# Altium footprint library Package_CSP.PcbLib: 178 footprints (part 7 of 12)
Each footprint in its own frame and in the unit in brackets; x right, y up, seen from the top. Pads: shape width x height; smd on the part's side, far side on the other; paste and mask are expansions set on the pad; w line width, h text height; cw(c..) or ccw(c..) is an arc to the next point about the centre after c.
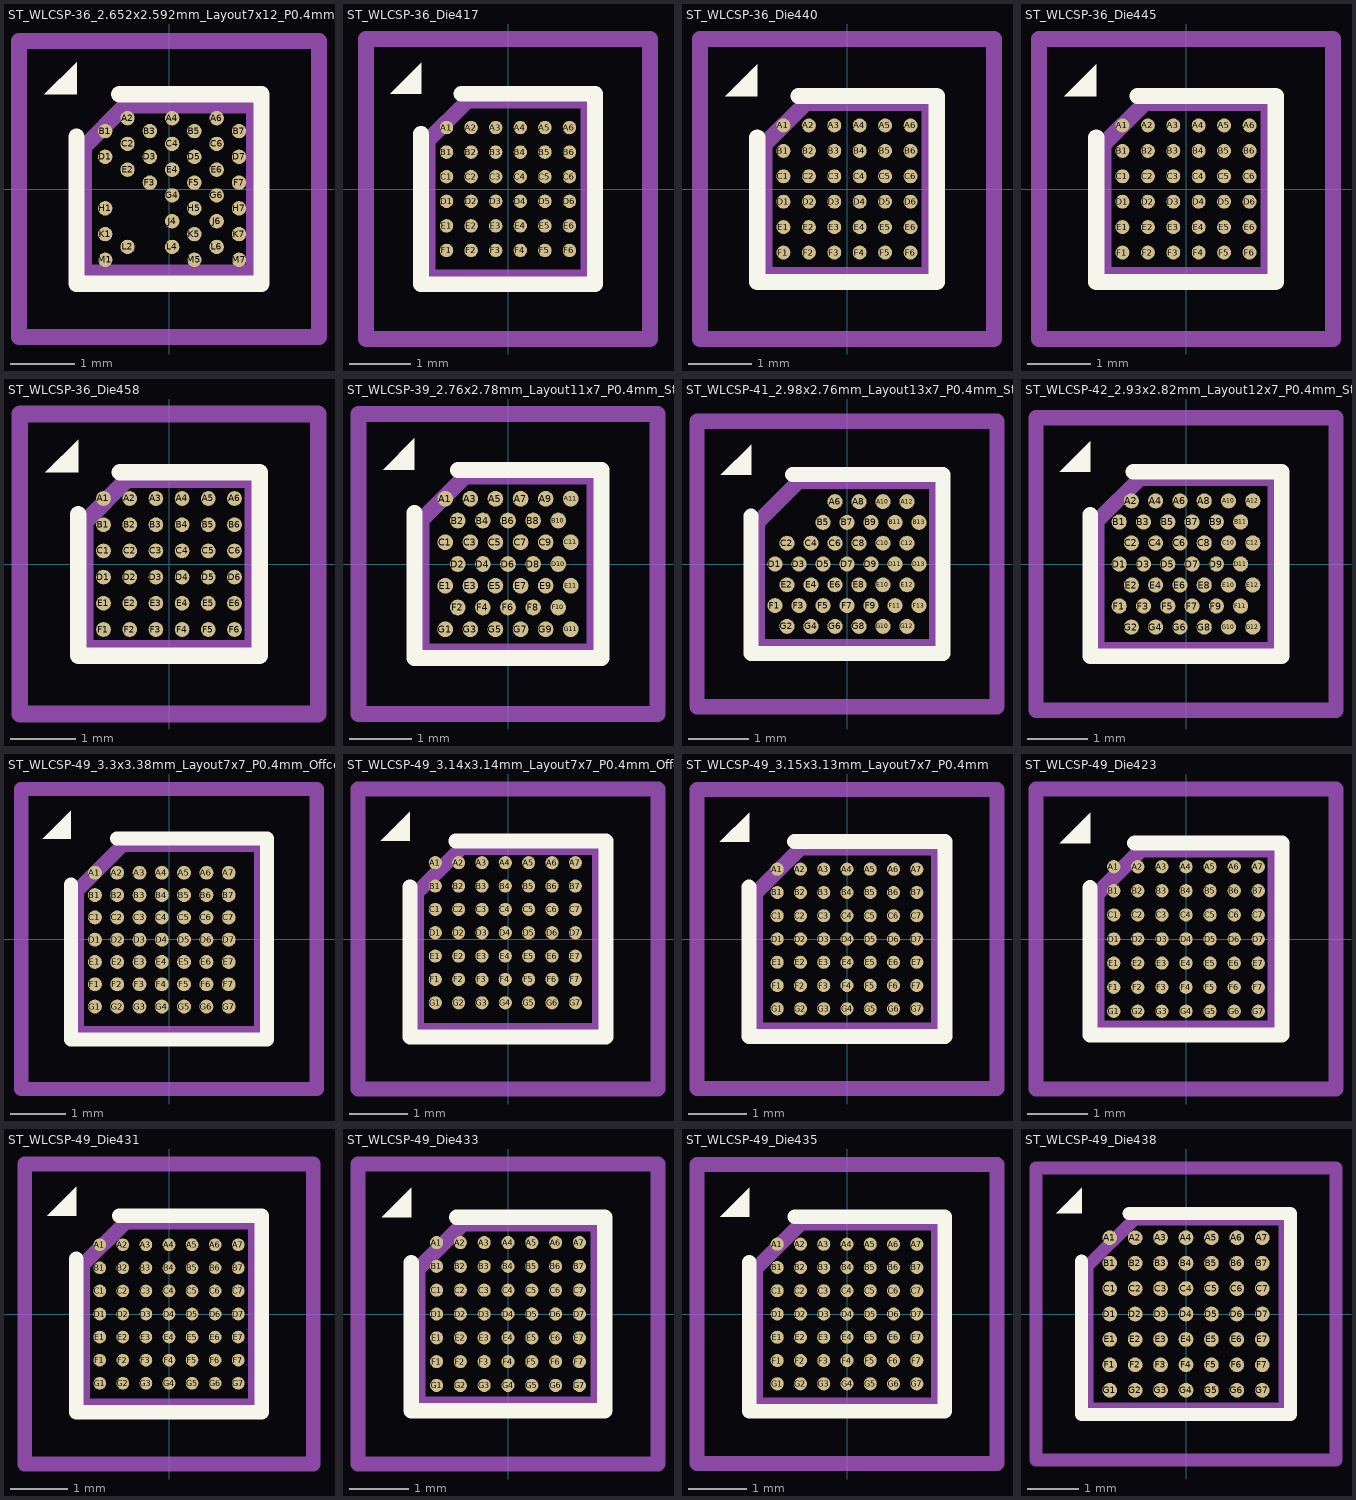
[diagram p6: the footprints below, top view; thin cyan lines are the x and y axes]

## ST_WLCSP-36_2.652x2.592mm_Layout7x12_P0.4mm_Stagger_Offcenter [mm]
pads (36):
  round 0.225 smd: A2(-0.645,1.1) A4(0.048,1.1) A6(0.741,1.1) B1(-0.991,0.9) B3(-0.298,0.9) B5(0.395,0.9) B7(1.088,0.9) C2(-0.645,0.7) C4(0.048,0.7) C6(0.741,0.7) D1(-0.991,0.5) D3(-0.298,0.5) D5(0.395,0.5) D7(1.088,0.5) E2(-0.645,0.3) E4(0.048,0.3) E6(0.741,0.3) F3(-0.298,0.1) F5(0.395,0.1) F7(1.088,0.1) G4(0.048,-0.1) G6(0.741,-0.1) H1(-0.991,-0.3) H5(0.395,-0.3) H7(1.088,-0.3) J4(0.048,-0.5) J6(0.741,-0.5) K1(-0.991,-0.7) K5(0.395,-0.7) K7(1.088,-0.7) L2(-0.645,-0.9) L4(0.048,-0.9) L6(0.741,-0.9) M1(-0.991,-1.1) M5(0.395,-1.1) M7(1.088,-1.1)
F.SilkS:
  region: -1.436,1.472 -1.936,1.472 -1.436,1.973
  lines w0.254: -1.436,0.81 -1.436,-1.472 1.436,-1.472 1.436,1.472 -0.773,1.472
Top Assembly:
  lines w0.254: -1.326,-1.296 1.326,-1.296 1.326,1.296 -0.678,1.296 -1.326,0.648 -1.326,-1.296
  text "'.Designator'" at -2.509,-0.521 h0.62
Top Courtyard:
  lines w0.254: -2.33,-2.3 2.33,-2.3 2.33,2.3 -2.33,2.3 -2.33,-2.3
Top Designator:
  text ".Designator" at -7.69,-0.508 h1.52

## ST_WLCSP-36_Die417 [mm]
pads (36):
  round 0.22 smd: A1(-1,1) A2(-0.6,1) A3(-0.2,1) A4(0.2,1) A5(0.6,1) A6(1,1) B1(-1,0.6) B2(-0.6,0.6) B3(-0.2,0.6) B4(0.2,0.6) B5(0.6,0.6) B6(1,0.6) C1(-1,0.2) C2(-0.6,0.2) C3(-0.2,0.2) C4(0.2,0.2) C5(0.6,0.2) C6(1,0.2) D1(-1,-0.2) D2(-0.6,-0.2) D3(-0.2,-0.2) D4(0.2,-0.2) D5(0.6,-0.2) D6(1,-0.2) E1(-1,-0.6) E2(-0.6,-0.6) E3(-0.2,-0.6) E4(0.2,-0.6) E5(0.6,-0.6) E6(1,-0.6) F1(-1,-1) F2(-0.6,-1) F3(-0.2,-1) F4(0.2,-1) F5(0.6,-1) F6(1,-1)
F.SilkS:
  region: -1.415,1.55 -1.915,1.55 -1.415,2.05
  lines w0.254: -1.415,0.897 -1.415,-1.55 1.415,-1.55 1.415,1.55 -0.763,1.55
Top Assembly:
  lines w0.254: -1.305,-1.44 1.305,-1.44 1.305,1.44 -0.653,1.44 -1.305,0.787 -1.305,-1.44
  text "'.Designator'" at -0.563,2.711 h0.67
Top Courtyard:
  lines w0.254: -2.31,-2.44 2.31,-2.44 2.31,2.44 -2.31,2.44 -2.31,-2.44
Top Designator:
  text ".Designator" at -7.618,-0.407 h1.52

## ST_WLCSP-36_Die440 [mm]
pads (36):
  round 0.22 smd: A1(-1,1) A2(-0.6,1) A3(-0.2,1) A4(0.2,1) A5(0.6,1) A6(1,1) B1(-1,0.6) B2(-0.6,0.6) B3(-0.2,0.6) B4(0.2,0.6) B5(0.6,0.6) B6(1,0.6) C1(-1,0.2) C2(-0.6,0.2) C3(-0.2,0.2) C4(0.2,0.2) C5(0.6,0.2) C6(1,0.2) D1(-1,-0.2) D2(-0.6,-0.2) D3(-0.2,-0.2) D4(0.2,-0.2) D5(0.6,-0.2) D6(1,-0.2) E1(-1,-0.6) E2(-0.6,-0.6) E3(-0.2,-0.6) E4(0.2,-0.6) E5(0.6,-0.6) E6(1,-0.6) F1(-1,-1) F2(-0.6,-1) F3(-0.2,-1) F4(0.2,-1) F5(0.6,-1) F6(1,-1)
F.SilkS:
  region: -1.412,1.462 -1.913,1.462 -1.412,1.961
  lines w0.254: -1.412,0.81 -1.412,-1.462 1.412,-1.462 1.412,1.462 -0.761,1.462
Top Assembly:
  lines w0.254: -1.302,-1.352 1.302,-1.352 1.302,1.352 -0.651,1.352 -1.302,0.7 -1.302,-1.352
  text "'.Designator'" at -0.529,2.549 h0.63
Top Courtyard:
  lines w0.254: -2.31,-2.36 2.31,-2.36 2.31,2.36 -2.31,2.36 -2.31,-2.36
Top Designator:
  text ".Designator" at -7.618,-0.429 h1.52

## ST_WLCSP-36_Die445 [mm]
pads (36):
  round 0.22 smd: A1(-1,1) A2(-0.6,1) A3(-0.2,1) A4(0.2,1) A5(0.6,1) A6(1,1) B1(-1,0.6) B2(-0.6,0.6) B3(-0.2,0.6) B4(0.2,0.6) B5(0.6,0.6) B6(1,0.6) C1(-1,0.2) C2(-0.6,0.2) C3(-0.2,0.2) C4(0.2,0.2) C5(0.6,0.2) C6(1,0.2) D1(-1,-0.2) D2(-0.6,-0.2) D3(-0.2,-0.2) D4(0.2,-0.2) D5(0.6,-0.2) D6(1,-0.2) E1(-1,-0.6) E2(-0.6,-0.6) E3(-0.2,-0.6) E4(0.2,-0.6) E5(0.6,-0.6) E6(1,-0.6) F1(-1,-1) F2(-0.6,-1) F3(-0.2,-1) F4(0.2,-1) F5(0.6,-1) F6(1,-1)
F.SilkS:
  region: -1.412,1.462 -1.913,1.462 -1.412,1.961
  lines w0.254: -1.412,0.81 -1.412,-1.462 1.412,-1.462 1.412,1.462 -0.761,1.462
Top Assembly:
  lines w0.254: -1.302,-1.352 1.302,-1.352 1.302,1.352 -0.651,1.352 -1.302,0.7 -1.302,-1.352
  text "'.Designator'" at -0.529,2.549 h0.63
Top Courtyard:
  lines w0.254: -2.31,-2.36 2.31,-2.36 2.31,2.36 -2.31,2.36 -2.31,-2.36
Top Designator:
  text ".Designator" at -7.618,-0.429 h1.52

## ST_WLCSP-36_Die458 [mm]
pads (36):
  round 0.225 smd: A1(-1,1) A2(-0.6,1) A3(-0.2,1) A4(0.2,1) A5(0.6,1) A6(1,1) B1(-1,0.6) B2(-0.6,0.6) B3(-0.2,0.6) B4(0.2,0.6) B5(0.6,0.6) B6(1,0.6) C1(-1,0.2) C2(-0.6,0.2) C3(-0.2,0.2) C4(0.2,0.2) C5(0.6,0.2) C6(1,0.2) D1(-1,-0.2) D2(-0.6,-0.2) D3(-0.2,-0.2) D4(0.2,-0.2) D5(0.6,-0.2) D6(1,-0.2) E1(-1,-0.6) E2(-0.6,-0.6) E3(-0.2,-0.6) E4(0.2,-0.6) E5(0.6,-0.6) E6(1,-0.6) F1(-1,-1) F2(-0.6,-1) F3(-0.2,-1) F4(0.2,-1) F5(0.6,-1) F6(1,-1)
F.SilkS:
  region: -1.386,1.399 -1.887,1.399 -1.386,1.9
  lines w0.254: -1.386,0.761 -1.386,-1.399 1.386,-1.399 1.386,1.399 -0.748,1.399
Top Assembly:
  lines w0.254: -1.276,-1.289 1.276,-1.289 1.276,1.289 -0.638,1.289 -1.276,0.651 -1.276,-1.289
  text "'.Designator'" at -0.504,2.428 h0.6
Top Courtyard:
  lines w0.254: -2.28,-2.29 2.28,-2.29 2.28,2.29 -2.28,2.29 -2.28,-2.29
Top Designator:
  text ".Designator" at -7.618,-0.457 h1.52

## ST_WLCSP-39_2.76x2.78mm_Layout11x7_P0.4mm_Stagger [mm]
pads (39):
  round 0.25 smd: A1(-1,1.039) A3(-0.6,1.039) A5(-0.2,1.039) A7(0.2,1.039) A9(0.6,1.039) A11(1,1.039) B2(-0.8,0.693) B4(-0.4,0.693) B6(0,0.693) B8(0.4,0.693) B10(0.8,0.693) C1(-1,0.346) C3(-0.6,0.346) C5(-0.2,0.346) C7(0.2,0.346) C9(0.6,0.346) C11(1,0.346) D2(-0.8,0) D4(-0.4,0) D6(0,0) D8(0.4,0) D10(0.8,0) E1(-1,-0.346) E3(-0.6,-0.346) E5(-0.2,-0.346) E7(0.2,-0.346) E9(0.6,-0.346) E11(1,-0.346) F2(-0.8,-0.693) F4(-0.4,-0.693) F6(0,-0.693) F8(0.4,-0.693) F10(0.8,-0.693) G1(-1,-1.039) G3(-0.6,-1.039) G5(-0.2,-1.039) G7(0.2,-1.039) G9(0.6,-1.039) G11(1,-1.039)
F.SilkS:
  region: -1.49,1.5 -1.99,1.5 -1.49,2
  lines w0.254: -1.49,0.81 -1.49,-1.5 1.49,-1.5 1.49,1.5 -0.8,1.5
Top Assembly:
  lines w0.254: -1.38,-1.39 1.38,-1.39 1.38,1.39 -0.69,1.39 -1.38,0.7 -1.38,-1.39
  text "'.Designator'" at -0.546,2.63 h0.65
Top Courtyard:
  lines w0.254: -2.38,-2.39 2.38,-2.39 2.38,2.39 -2.38,2.39 -2.38,-2.39
Top Designator:
  text ".Designator" at -7.618,-0.41 h1.52

## ST_WLCSP-41_2.98x2.76mm_Layout13x7_P0.4mm_Stagger [mm]
pads (41):
  round 0.25 smd: A6(-0.2,1.039) A8(0.2,1.039) A10(0.6,1.039) A12(1,1.039) B5(-0.4,0.693) B7(0,0.693) B9(0.4,0.693) B11(0.8,0.693) B13(1.2,0.693) C2(-1,0.346) C4(-0.6,0.346) C6(-0.2,0.346) C8(0.2,0.346) C10(0.6,0.346) C12(1,0.346) D1(-1.2,0) D3(-0.8,0) D5(-0.4,0) D7(0,0) D9(0.4,0) D11(0.8,0) D13(1.2,0) E2(-1,-0.346) E4(-0.6,-0.346) E6(-0.2,-0.346) E8(0.2,-0.346) E10(0.6,-0.346) E12(1,-0.346) F1(-1.2,-0.693) F3(-0.8,-0.693) F5(-0.4,-0.693) F7(0,-0.693) F9(0.4,-0.693) F11(0.8,-0.693) F13(1.2,-0.693) G2(-1,-1.039) G4(-0.6,-1.039) G6(-0.2,-1.039) G8(0.2,-1.039) G10(0.6,-1.039) G12(1,-1.039)
F.SilkS:
  region: -1.6,1.49 -2.1,1.49 -1.6,1.99
  lines w0.254: -1.6,0.8 -1.6,-1.49 1.6,-1.49 1.6,1.49 -0.91,1.49
Top Assembly:
  lines w0.254: -1.49,-1.38 1.49,-1.38 1.49,1.38 -0.8,1.38 -1.49,0.69 -1.49,-1.38
  text "'.Designator'" at -2.792,-0.58 h0.69
Top Courtyard:
  lines w0.254: -2.5,-2.38 2.5,-2.38 2.5,2.38 -2.5,2.38 -2.5,-2.38
Top Designator:
  text ".Designator" at -7.721,-0.508 h1.52

## ST_WLCSP-42_2.93x2.82mm_Layout12x7_P0.4mm_Stagger [mm]
pads (42):
  round 0.25 smd: A2(-0.9,1.039) A4(-0.5,1.039) A6(-0.1,1.039) A8(0.3,1.039) A10(0.7,1.039) A12(1.1,1.039) B1(-1.1,0.693) B3(-0.7,0.693) B5(-0.3,0.693) B7(0.1,0.693) B9(0.5,0.693) B11(0.9,0.693) C2(-0.9,0.346) C4(-0.5,0.346) C6(-0.1,0.346) C8(0.3,0.346) C10(0.7,0.346) C12(1.1,0.346) D1(-1.1,0) D3(-0.7,0) D5(-0.3,0) D7(0.1,0) D9(0.5,0) D11(0.9,0) E2(-0.9,-0.346) E4(-0.5,-0.346) E6(-0.1,-0.346) E8(0.3,-0.346) E10(0.7,-0.346) E12(1.1,-0.346) F1(-1.1,-0.693) F3(-0.7,-0.693) F5(-0.3,-0.693) F7(0.1,-0.693) F9(0.5,-0.693) F11(0.9,-0.693) G2(-0.9,-1.039) G4(-0.5,-1.039) G6(-0.1,-1.039) G8(0.3,-1.039) G10(0.7,-1.039) G12(1.1,-1.039)
F.SilkS:
  region: -1.575,1.52 -2.075,1.52 -1.575,2.02
  lines w0.254: -1.575,0.815 -1.575,-1.52 1.575,-1.52 1.575,1.52 -0.87,1.52
Top Assembly:
  lines w0.254: -1.465,-1.41 1.465,-1.41 1.465,1.41 -0.76,1.41 -1.465,0.705 -1.465,-1.41
  text "'.Designator'" at -2.752,-0.571 h0.68
Top Courtyard:
  lines w0.254: -2.47,-2.41 2.47,-2.41 2.47,2.41 -2.47,2.41 -2.47,-2.41
Top Designator:
  text ".Designator" at -7.72,-0.508 h1.52

## ST_WLCSP-49_3.3x3.38mm_Layout7x7_P0.4mm_Offcenter [mm]
pads (49):
  round 0.25 smd: A1(-1.329,1.188) A2(-0.929,1.188) A3(-0.529,1.188) A4(-0.129,1.188) A5(0.271,1.188) A6(0.671,1.188) A7(1.071,1.188) B1(-1.329,0.788) B2(-0.929,0.788) B3(-0.529,0.788) B4(-0.129,0.788) B5(0.271,0.788) B6(0.671,0.788) B7(1.071,0.788) C1(-1.329,0.388) C2(-0.929,0.388) C3(-0.529,0.388) C4(-0.129,0.388) C5(0.271,0.388) C6(0.671,0.388) C7(1.071,0.388) D1(-1.329,-0.012) D2(-0.929,-0.012) D3(-0.529,-0.012) D4(-0.129,-0.012) D5(0.271,-0.012) D6(0.671,-0.012) D7(1.071,-0.012) E1(-1.329,-0.412) E2(-0.929,-0.412) E3(-0.529,-0.412) E4(-0.129,-0.412) E5(0.271,-0.412) E6(0.671,-0.412) E7(1.071,-0.412) F1(-1.329,-0.812) F2(-0.929,-0.812) F3(-0.529,-0.812) F4(-0.129,-0.812) F5(0.271,-0.812) F6(0.671,-0.812) F7(1.071,-0.812) G1(-1.329,-1.212) G2(-0.929,-1.212) G3(-0.529,-1.212) G4(-0.129,-1.212) G5(0.271,-1.212) G6(0.671,-1.212) G7(1.071,-1.212)
F.SilkS:
  region: -1.76,1.8 -2.26,1.8 -1.76,2.3
  lines w0.254: -1.76,0.975 -1.76,-1.8 1.76,-1.8 1.76,1.8 -0.935,1.8
Top Assembly:
  lines w0.254: -1.65,-1.69 1.65,-1.69 1.65,1.69 -0.825,1.69 -1.65,0.865 -1.65,-1.69
  text "'.Designator'" at -0.664,3.197 h0.79
Top Courtyard:
  lines w0.254: -2.65,-2.69 2.65,-2.69 2.65,2.69 -2.65,2.69 -2.65,-2.69
Top Designator:
  text ".Designator" at -7.618,-0.389 h1.52

## ST_WLCSP-49_3.14x3.14mm_Layout7x7_P0.4mm_Offcenter [mm]
pads (49):
  round 0.225 smd: A1(-1.246,1.307) A2(-0.846,1.307) A3(-0.446,1.307) A4(-0.046,1.307) A5(0.354,1.307) A6(0.754,1.307) A7(1.154,1.307) B1(-1.246,0.907) B2(-0.846,0.907) B3(-0.446,0.907) B4(-0.046,0.907) B5(0.354,0.907) B6(0.754,0.907) B7(1.154,0.907) C1(-1.246,0.507) C2(-0.846,0.507) C3(-0.446,0.507) C4(-0.046,0.507) C5(0.354,0.507) C6(0.754,0.507) C7(1.154,0.507) D1(-1.246,0.107) D2(-0.846,0.107) D3(-0.446,0.107) D4(-0.046,0.107) D5(0.354,0.107) D6(0.754,0.107) D7(1.154,0.107) E1(-1.246,-0.293) E2(-0.846,-0.293) E3(-0.446,-0.293) E4(-0.046,-0.293) E5(0.354,-0.293) E6(0.754,-0.293) E7(1.154,-0.293) F1(-1.246,-0.693) F2(-0.846,-0.693) F3(-0.446,-0.693) F4(-0.046,-0.693) F5(0.354,-0.693) F6(0.754,-0.693) F7(1.154,-0.693) G1(-1.246,-1.093) G2(-0.846,-1.093) G3(-0.446,-1.093) G4(-0.046,-1.093) G5(0.354,-1.093) G6(0.754,-1.093) G7(1.154,-1.093)
F.SilkS:
  region: -1.68,1.68 -2.18,1.68 -1.68,2.18
  lines w0.254: -1.68,0.895 -1.68,-1.68 1.68,-1.68 1.68,1.68 -0.895,1.68
Top Assembly:
  lines w0.254: -1.57,-1.57 1.57,-1.57 1.57,1.57 -0.785,1.57 -1.57,0.785 -1.57,-1.57
  text "'.Designator'" at -2.954,-0.613 h0.73
Top Courtyard:
  lines w0.254: -2.57,-2.57 2.57,-2.57 2.57,2.57 -2.57,2.57 -2.57,-2.57
Top Designator:
  text ".Designator" at -7.727,-0.508 h1.52

## ST_WLCSP-49_3.15x3.13mm_Layout7x7_P0.4mm [mm]
pads (49):
  round 0.225 smd: A1(-1.2,1.2) A2(-0.8,1.2) A3(-0.4,1.2) A4(0,1.2) A5(0.4,1.2) A6(0.8,1.2) A7(1.2,1.2) B1(-1.2,0.8) B2(-0.8,0.8) B3(-0.4,0.8) B4(0,0.8) B5(0.4,0.8) B6(0.8,0.8) B7(1.2,0.8) C1(-1.2,0.4) C2(-0.8,0.4) C3(-0.4,0.4) C4(0,0.4) C5(0.4,0.4) C6(0.8,0.4) C7(1.2,0.4) D1(-1.2,0) D2(-0.8,0) D3(-0.4,0) D4(0,0) D5(0.4,0) D6(0.8,0) D7(1.2,0) E1(-1.2,-0.4) E2(-0.8,-0.4) E3(-0.4,-0.4) E4(0,-0.4) E5(0.4,-0.4) E6(0.8,-0.4) E7(1.2,-0.4) F1(-1.2,-0.8) F2(-0.8,-0.8) F3(-0.4,-0.8) F4(0,-0.8) F5(0.4,-0.8) F6(0.8,-0.8) F7(1.2,-0.8) G1(-1.2,-1.2) G2(-0.8,-1.2) G3(-0.4,-1.2) G4(0,-1.2) G5(0.4,-1.2) G6(0.8,-1.2) G7(1.2,-1.2)
F.SilkS:
  region: -1.685,1.675 -2.185,1.675 -1.685,2.175
  lines w0.254: -1.685,0.893 -1.685,-1.675 1.685,-1.675 1.685,1.675 -0.903,1.675
Top Assembly:
  lines w0.254: -1.575,-1.565 1.575,-1.565 1.575,1.565 -0.793,1.565 -1.575,0.783 -1.575,-1.565
  text "'.Designator'" at -2.954,-0.613 h0.73
Top Courtyard:
  lines w0.254: -2.58,-2.57 2.58,-2.57 2.58,2.57 -2.58,2.57 -2.58,-2.57
Top Designator:
  text ".Designator" at -7.727,-0.508 h1.52

## ST_WLCSP-49_Die423 [mm]
pads (49):
  round 0.22 smd: A1(-1.2,1.2) A2(-0.8,1.2) A3(-0.4,1.2) A4(0,1.2) A5(0.4,1.2) A6(0.8,1.2) A7(1.2,1.2) B1(-1.2,0.8) B2(-0.8,0.8) B3(-0.4,0.8) B4(0,0.8) B5(0.4,0.8) B6(0.8,0.8) B7(1.2,0.8) C1(-1.2,0.4) C2(-0.8,0.4) C3(-0.4,0.4) C4(0,0.4) C5(0.4,0.4) C6(0.8,0.4) C7(1.2,0.4) D1(-1.2,0) D2(-0.8,0) D3(-0.4,0) D4(0,0) D5(0.4,0) D6(0.8,0) D7(1.2,0) E1(-1.2,-0.4) E2(-0.8,-0.4) E3(-0.4,-0.4) E4(0,-0.4) E5(0.4,-0.4) E6(0.8,-0.4) E7(1.2,-0.4) F1(-1.2,-0.8) F2(-0.8,-0.8) F3(-0.4,-0.8) F4(0,-0.8) F5(0.4,-0.8) F6(0.8,-0.8) F7(1.2,-0.8) G1(-1.2,-1.2) G2(-0.8,-1.2) G3(-0.4,-1.2) G4(0,-1.2) G5(0.4,-1.2) G6(0.8,-1.2) G7(1.2,-1.2)
F.SilkS:
  region: -1.593,1.593 -2.093,1.593 -1.593,2.093
  lines w0.254: -1.593,0.851 -1.593,-1.593 1.593,-1.593 1.593,1.593 -0.851,1.593
Top Assembly:
  lines w0.254: -1.482,-1.482 1.482,-1.482 1.482,1.482 -0.741,1.482 -1.482,0.741 -1.482,-1.482
  text "'.Designator'" at -2.792,-0.58 h0.69
Top Courtyard:
  lines w0.254: -2.49,-2.49 2.49,-2.49 2.49,2.49 -2.49,2.49 -2.49,-2.49
Top Designator:
  text ".Designator" at -7.721,-0.508 h1.52

## ST_WLCSP-49_Die431 [mm]
pads (49):
  round 0.22 smd: A1(-1.2,1.2) A2(-0.8,1.2) A3(-0.4,1.2) A4(0,1.2) A5(0.4,1.2) A6(0.8,1.2) A7(1.2,1.2) B1(-1.2,0.8) B2(-0.8,0.8) B3(-0.4,0.8) B4(0,0.8) B5(0.4,0.8) B6(0.8,0.8) B7(1.2,0.8) C1(-1.2,0.4) C2(-0.8,0.4) C3(-0.4,0.4) C4(0,0.4) C5(0.4,0.4) C6(0.8,0.4) C7(1.2,0.4) D1(-1.2,0) D2(-0.8,0) D3(-0.4,0) D4(0,0) D5(0.4,0) D6(0.8,0) D7(1.2,0) E1(-1.2,-0.4) E2(-0.8,-0.4) E3(-0.4,-0.4) E4(0,-0.4) E5(0.4,-0.4) E6(0.8,-0.4) E7(1.2,-0.4) F1(-1.2,-0.8) F2(-0.8,-0.8) F3(-0.4,-0.8) F4(0,-0.8) F5(0.4,-0.8) F6(0.8,-0.8) F7(1.2,-0.8) G1(-1.2,-1.2) G2(-0.8,-1.2) G3(-0.4,-1.2) G4(0,-1.2) G5(0.4,-1.2) G6(0.8,-1.2) G7(1.2,-1.2)
F.SilkS:
  region: -1.609,1.703 -2.11,1.703 -1.609,2.203
  lines w0.254: -1.609,0.953 -1.609,-1.703 1.609,-1.703 1.609,1.703 -0.86,1.703
Top Assembly:
  lines w0.254: -1.499,-1.593 1.499,-1.593 1.499,1.593 -0.75,1.593 -1.499,0.843 -1.499,-1.593
  text "'.Designator'" at -0.622,2.995 h0.74
Top Courtyard:
  lines w0.254: -2.5,-2.6 2.5,-2.6 2.5,2.6 -2.5,2.6 -2.5,-2.6
Top Designator:
  text ".Designator" at -7.618,-0.397 h1.52

## ST_WLCSP-49_Die433 [mm]
pads (49):
  round 0.22 smd: A1(-1.2,1.2) A2(-0.8,1.2) A3(-0.4,1.2) A4(0,1.2) A5(0.4,1.2) A6(0.8,1.2) A7(1.2,1.2) B1(-1.2,0.8) B2(-0.8,0.8) B3(-0.4,0.8) B4(0,0.8) B5(0.4,0.8) B6(0.8,0.8) B7(1.2,0.8) C1(-1.2,0.4) C2(-0.8,0.4) C3(-0.4,0.4) C4(0,0.4) C5(0.4,0.4) C6(0.8,0.4) C7(1.2,0.4) D1(-1.2,0) D2(-0.8,0) D3(-0.4,0) D4(0,0) D5(0.4,0) D6(0.8,0) D7(1.2,0) E1(-1.2,-0.4) E2(-0.8,-0.4) E3(-0.4,-0.4) E4(0,-0.4) E5(0.4,-0.4) E6(0.8,-0.4) E7(1.2,-0.4) F1(-1.2,-0.8) F2(-0.8,-0.8) F3(-0.4,-0.8) F4(0,-0.8) F5(0.4,-0.8) F6(0.8,-0.8) F7(1.2,-0.8) G1(-1.2,-1.2) G2(-0.8,-1.2) G3(-0.4,-1.2) G4(0,-1.2) G5(0.4,-1.2) G6(0.8,-1.2) G7(1.2,-1.2)
F.SilkS:
  region: -1.625,1.625 -2.124,1.625 -1.625,2.124
  lines w0.254: -1.625,0.867 -1.625,-1.625 1.625,-1.625 1.625,1.625 -0.867,1.625
Top Assembly:
  lines w0.254: -1.515,-1.515 1.515,-1.515 1.515,1.515 -0.757,1.515 -1.515,0.757 -1.515,-1.515
  text "'.Designator'" at -2.833,-0.588 h0.7
Top Courtyard:
  lines w0.254: -2.52,-2.52 2.52,-2.52 2.52,2.52 -2.52,2.52 -2.52,-2.52
Top Designator:
  text ".Designator" at -7.723,-0.508 h1.52

## ST_WLCSP-49_Die435 [mm]
pads (49):
  round 0.225 smd: A1(-1.2,1.2) A2(-0.8,1.2) A3(-0.4,1.2) A4(0,1.2) A5(0.4,1.2) A6(0.8,1.2) A7(1.2,1.2) B1(-1.2,0.8) B2(-0.8,0.8) B3(-0.4,0.8) B4(0,0.8) B5(0.4,0.8) B6(0.8,0.8) B7(1.2,0.8) C1(-1.2,0.4) C2(-0.8,0.4) C3(-0.4,0.4) C4(0,0.4) C5(0.4,0.4) C6(0.8,0.4) C7(1.2,0.4) D1(-1.2,0) D2(-0.8,0) D3(-0.4,0) D4(0,0) D5(0.4,0) D6(0.8,0) D7(1.2,0) E1(-1.2,-0.4) E2(-0.8,-0.4) E3(-0.4,-0.4) E4(0,-0.4) E5(0.4,-0.4) E6(0.8,-0.4) E7(1.2,-0.4) F1(-1.2,-0.8) F2(-0.8,-0.8) F3(-0.4,-0.8) F4(0,-0.8) F5(0.4,-0.8) F6(0.8,-0.8) F7(1.2,-0.8) G1(-1.2,-1.2) G2(-0.8,-1.2) G3(-0.4,-1.2) G4(0,-1.2) G5(0.4,-1.2) G6(0.8,-1.2) G7(1.2,-1.2)
F.SilkS:
  region: -1.68,1.673 -2.181,1.673 -1.68,2.174
  lines w0.254: -1.68,0.892 -1.68,-1.673 1.68,-1.673 1.68,1.673 -0.899,1.673
Top Assembly:
  lines w0.254: -1.57,-1.563 1.57,-1.563 1.57,1.563 -0.789,1.563 -1.57,0.782 -1.57,-1.563
  text "'.Designator'" at -2.954,-0.613 h0.73
Top Courtyard:
  lines w0.254: -2.58,-2.57 2.58,-2.57 2.58,2.57 -2.58,2.57 -2.58,-2.57
Top Designator:
  text ".Designator" at -7.727,-0.508 h1.52

## ST_WLCSP-49_Die438 [mm]
pads (49):
  round 0.29 smd: A1(-1.5,1.5) A2(-1,1.5) A3(-0.5,1.5) A4(0,1.5) A5(0.5,1.5) A6(1,1.5) A7(1.5,1.5) B1(-1.5,1) B2(-1,1) B3(-0.5,1) B4(0,1) B5(0.5,1) B6(1,1) B7(1.5,1) C1(-1.5,0.5) C2(-1,0.5) C3(-0.5,0.5) C4(0,0.5) C5(0.5,0.5) C6(1,0.5) C7(1.5,0.5) D1(-1.5,0) D2(-1,0) D3(-0.5,0) D4(0,0) D5(0.5,0) D6(1,0) D7(1.5,0) E1(-1.5,-0.5) E2(-1,-0.5) E3(-0.5,-0.5) E4(0,-0.5) E5(0.5,-0.5) E6(1,-0.5) E7(1.5,-0.5) F1(-1.5,-1) F2(-1,-1) F3(-0.5,-1) F4(0,-1) F5(0.5,-1) F6(1,-1) F7(1.5,-1) G1(-1.5,-1.5) G2(-1,-1.5) G3(-0.5,-1.5) G4(0,-1.5) G5(0.5,-1.5) G6(1,-1.5) G7(1.5,-1.5)
F.SilkS:
  region: -2.055,1.98 -2.555,1.98 -2.055,2.48
  lines w0.254: -2.055,1.045 -2.055,-1.98 2.055,-1.98 2.055,1.98 -1.12,1.98
Top Assembly:
  lines w0.254: -1.945,-1.87 1.945,-1.87 1.945,1.87 -1.01,1.87 -1.945,0.935 -1.945,-1.87
  text "'.Designator'" at -3.642,-0.756 h0.9
Top Courtyard:
  lines w0.254: -2.95,-2.87 2.95,-2.87 2.95,2.87 -2.95,2.87 -2.95,-2.87
Top Designator:
  text ".Designator" at -7.753,-0.508 h1.52